# Altium schematic symbol library AltiumDesigner.SchLib: 2 symbols
Pins are listed as number, name and electrical type; pins without a type are passive.

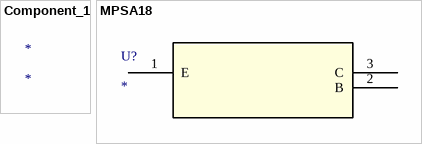
[diagram p0: symbols Component_1 to MPSA18]

## Component_1
designator *

## MPSA18
designator U?
Imported; Manufacturer_Part_Number: MPSA18; Vendor: Fairchild Semiconductor; Built_By: EMA_UL_Team; C: Copyright (C) 2015 Accelerated Designs. All rights reserved; RefDes: RefDes; Type: DEV; Value: Value
footprint TO-92_2
pins: 1 E, 2 B, 3 C